# EAGLE library part CC1101 (library RadioShield)
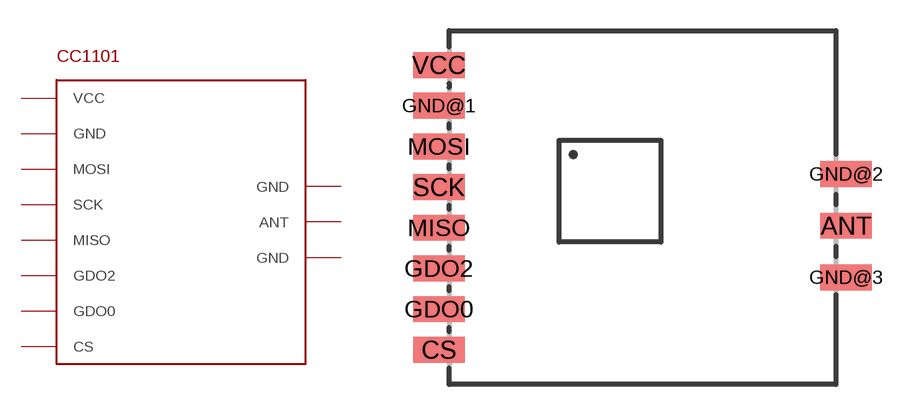
[diagram p0: symbol with the pads of CC1101; footprint CC1101]

Designator prefix -

## CC1101  [CC1101]
ANT  ANT
CS  CS
GDO0  GDO0
GDO2  GDO2
GND@1  GND
GND@2  GND
GND@3  GND
MISO  MISO
MOSI  MOSI
SCK  SCK
VCC  VCC

## Footprint CC1101 (pad centres in mm)
smd 2.54 x 1.27: ANT 10,-0.9; CS -10,-7; GDO0 -10,-5; GDO2 -10,-3; GND@1 -10,5; GND@2 10,1.64; GND@3 10,-3.44; MISO -10,-1; MOSI -10,3; SCK -10,1; VCC -10,7